# Altium footprint library DFN.PcbLib: 4 footprints
Each footprint in its own frame and in the unit in brackets; x right, y up, seen from the top. Pads: shape width x height; smd on the part's side, far side on the other; paste and mask are expansions set on the pad; w line width, h text height; cw(c..) or ccw(c..) is an arc to the next point about the centre after c.
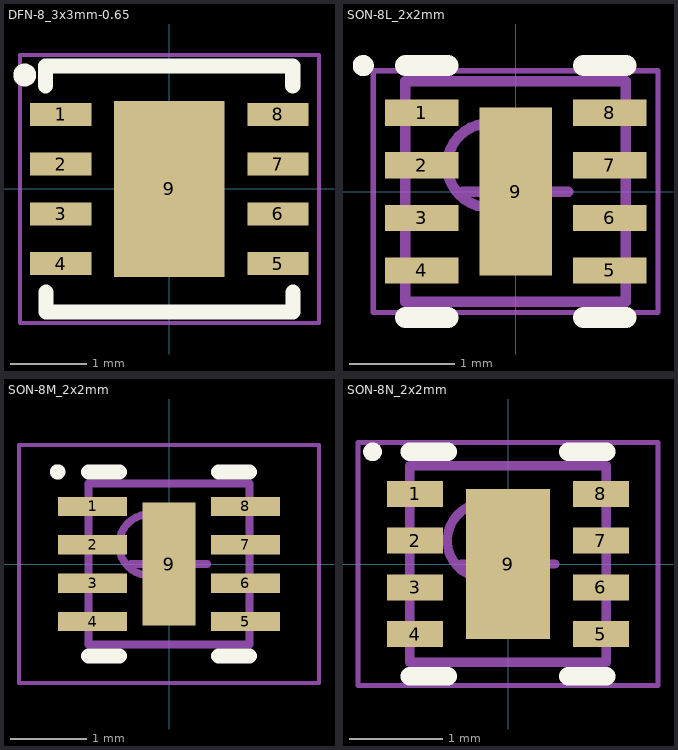
[diagram p0: the footprints below, top view; thin cyan lines are the x and y axes]

## DFN-8_3x3mm-0.65 [mm] "SON, 8-Leads, Body 3.00x3.00mm, Pitch 0.65mm, Thermal Pad 2.30x1.34mm, IPC Medium Density"
height 0.9
pads (9):
  rect 0.8x0.3 smd: 1(-1.42,0.975) 2(-1.42,0.325) 3(-1.42,-0.325) 4(-1.42,-0.975) 5(1.42,-0.975) 6(1.42,-0.325) 7(1.42,0.325) 8(1.42,0.975)
  rect 1.44x2.3 smd: 9(0,0)
Top Overlay:
  circle w0.15: c-1.89,1.49 r0.075
  lines w0.2: -1.618,1.35 -1.618,1.608 1.612,1.608 1.612,1.35 ; -1.612,-1.35 -1.612,-1.608 1.618,-1.608 1.618,-1.35
Mechanical 15:
  lines w0.05: -1.953,-1.75 1.957,-1.75 1.957,1.75 -1.953,1.75 -1.953,-1.75
  lines w0.1: -0.5,0 0.5,0 ; 0,-0.5 0,0.5
3D body "DFN-8_3x3mm-0.65.STEP": height 0.8, standoff 0, extent -1.51,-1.5 1.51,1.5

## SON-8L_2x2mm [mm] "SON, 8-Leads, Body 2.00x2.00mm, Pitch 0.50mm, Thermal Pad 1.60x0.69mm, IPC High Density"
height 0.8
pads (9):
  rect 0.7x0.25 smd: 1(-0.895,0.75) 2(-0.895,0.25) 3(-0.895,-0.25) 4(-0.895,-0.75) 5(0.895,-0.75) 6(0.895,-0.25) 7(0.895,0.25) 8(0.895,0.75)
  rect 0.69x1.6 smd: 9(0,0)
Top Overlay:
  circle w0.1: c-1.45,1.2 r0.05
  lines w0.2: -1.05,-1.2 -0.645,-1.2 ; -1.05,1.2 -0.645,1.2 ; 0.645,-1.2 1.05,-1.2 ; 0.645,1.2 1.05,1.2
Mechanical 13:
  circle w0.1: c-0.25,0.25 r0.4
  lines w0.1: -1.05,-1.05 1.05,-1.05 1.05,1.05 -1.05,1.05 -1.05,-1.05
Mechanical 15:
  lines w0.05: -1.355,-1.15 1.355,-1.15 1.355,1.15 -1.355,1.15 -1.355,-1.15
  lines w0.1: -0.5,0 0.5,0 ; 0,-0.5 0,0.5
3D body: height 0.8, standoff 0.05, extent -1.05,-1.05 1.05,1.05

## SON-8M_2x2mm [mm] "SON, 8-Leads, Body 2.00x2.00mm, Pitch 0.50mm, Thermal Pad 1.60x0.69mm, IPC Low Density"
height 0.8
pads (9):
  rect 0.9x0.25 smd: 1(-0.995,0.75) 2(-0.995,0.25) 3(-0.995,-0.25) 4(-0.995,-0.75) 5(0.995,-0.75) 6(0.995,-0.25) 7(0.995,0.25) 8(0.995,0.75)
  rect 0.69x1.6 smd: 9(0,0)
Top Overlay:
  circle w0.1: c-1.45,1.2 r0.05
  lines w0.2: -1.05,-1.2 -0.645,-1.2 ; -1.05,1.2 -0.645,1.2 ; 0.645,-1.2 1.05,-1.2 ; 0.645,1.2 1.05,1.2
Mechanical 13:
  circle w0.1: c-0.25,0.25 r0.4
  lines w0.1: -1.05,-1.05 1.05,-1.05 1.05,1.05 -1.05,1.05 -1.05,-1.05
Mechanical 15:
  lines w0.05: -1.955,-1.55 1.955,-1.55 1.955,1.55 -1.955,1.55 -1.955,-1.55
  lines w0.1: -0.5,0 0.5,0 ; 0,-0.5 0,0.5
3D body: height 0.8, standoff 0.05, extent -1.05,-1.05 1.05,1.05

## SON-8N_2x2mm [mm] "SON, 8-Leads, Body 2.00x2.00mm, Pitch 0.50mm, Thermal Pad 1.60x0.69mm, IPC Medium Density"
height 0.8
pads (9):
  rect 0.6x0.28 smd mask+0.07: 1(-0.995,0.75) 2(-0.995,0.25) 3(-0.995,-0.25) 4(-0.995,-0.75) 5(0.995,-0.75) 6(0.995,-0.25) 7(0.995,0.25) 8(0.995,0.75)
  rect 0.9x1.6 smd: 9(0,0)
Top Overlay:
  circle w0.1: c-1.45,1.2 r0.05
  lines w0.2: -1.05,-1.2 -0.645,-1.2 ; -1.05,1.2 -0.645,1.2 ; 0.645,-1.2 1.05,-1.2 ; 0.645,1.2 1.05,1.2
Mechanical 13:
  circle w0.1: c-0.25,0.25 r0.4
  lines w0.1: -1.05,-1.05 -1.05,1.05 1.05,1.05 1.05,-1.05 -1.05,-1.05
Mechanical 15:
  lines w0.05: -1.605,-1.3 -1.605,1.3 1.605,1.3 1.605,-1.3 -1.605,-1.3
  lines w0.1: -0.5,0 0.5,0 ; 0,-0.5 0,0.5
3D body "User Library-SON8-2x2mm-1.STEP": height 0.77, standoff -0.03, extent -1,-1 1,1